# EAGLE library part 6620XX235922_662008235922 (library 66200211022_Eagle_WR-MPC3_rev19b)
WR-MPC3 3.00 mm SMT Male Dual Row Vertical Header with THT Retention Clip KIND PROPERTIES: Pitch:3 mm Gender:Male MATERIAL PROPERTIES: Insulator Material:LCP Insulator Flammability Rating:UL94 V-0 Insulator Color:Black Contact Material:Copper Alloy Contact Plating:Tin Contact Type:Stamped GENERAL INFORMATION Operating Temperature:-40 up to +105 °C Compliance:RoHS Working Voltage:250V (AC) Withstanding Voltage:1500 V (AC) Contact Resistance:10 mΩ RISO:1000 MΩ CERTIFICATION UL Approval:E323964 PACKAGING PROPERTIES Packaging:Tube <https://katalog.we-online.com/media/images/v2/o33178v209%20Family_WR-MPC3_662xxx235922.jpg> Details see: https://katalog.we-online.com/en/em/MPC3_3_00_SMT_MALE_DUAL_ROW_VERTICAL_HEADER_W_THT_RETENTION_CLIP_6620XX235922 Updated by Yingchun,Shan 2019-11-13 2019 (C) Würth Elektronik
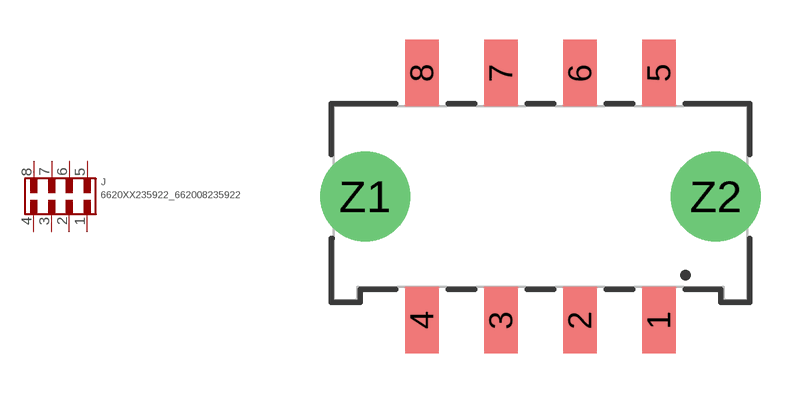
[diagram p35: symbol with the pads of 662008235922; footprint 662008235922]

Designator prefix J

## 6620XX235922_662008235922 (CONTACT-RESISTANCE: 10Ohm; DATASHEET-URL: https://katalog.we-online.com/em/datasheet/662008235922.pdf; GENDER: Male; IR1: 5A; L: 15.7mm; MATE-WITH: WR-MPC3 3.00 mm Female Dual Row Receptacle; MOUNT: SMT; PACKAGING: Tube; PART-NUMBER: 662008235922; PCB-CABLE-PANEL: PCB; PINS: 8; PITCH: 3mm; ROWS: Dual; TOL-R: max.; TYPE: Vertical; WORKING-VOLTAGE: 250V(AC))  [662008235922]
1  1  pas
2  2  pas
3  3  pas
4  4  pas
5  5  pas
6  6  pas
7  7  pas
8  8  pas

## Footprint 662008235922 (pad centres in mm)
WR-MPC3 3.00 mm SMT Male Dual Row Vertical Header with THT Retention Clip, 8 Pins
smd 1.27 x 2.54: 1 4.5,-4.7; 2 1.5,-4.7; 3 -1.5,-4.7; 4 -4.5,-4.7; 5 4.5,4.7; 6 1.5,4.7; 7 -1.5,4.7; 8 -4.5,4.7
drill 2.41: Z1 -6.66,0; Z2 6.66,0